# Altium schematic symbol library RES_SMD.SchLib: 8 symbols
Pins are listed as number, name and electrical type; pins without a type are passive.

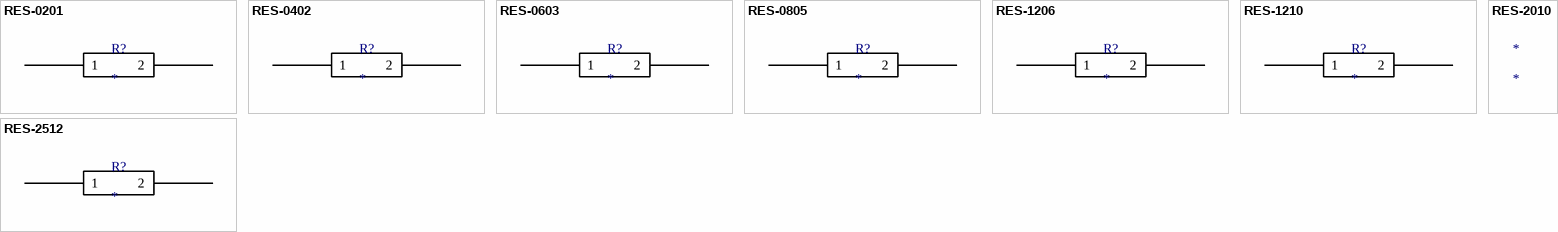
[diagram p0: symbols RES-0201 to RES-2512]

## RES-0201
designator R?
footprint RES-0201
pins: 1, 2

## RES-0402
designator R?
footprint RES-0402
pins: 1, 2

## RES-0603
designator R?
footprint RES-0603
pins: 1, 2

## RES-0805
designator R?
footprint RES-0805
pins: 1, 2

## RES-1206
designator R?
footprint RES-1206
pins: 1, 2

## RES-1210
designator R?
footprint RES-1210
pins: 1, 2

## RES-2010
designator *
footprint RES-2010

## RES-2512
designator R?
footprint RES-2512
pins: 1, 2